# Altium footprint library PCB - CONNECTORS - MOLEX - Pico-Lock.PcbLib: 9 footprints
Each footprint in its own frame and in the unit in brackets; x right, y up, seen from the top. Pads: shape width x height; smd on the part's side, far side on the other; paste and mask are expansions set on the pad; w line width, h text height; cw(c..) or ccw(c..) is an arc to the next point about the centre after c.
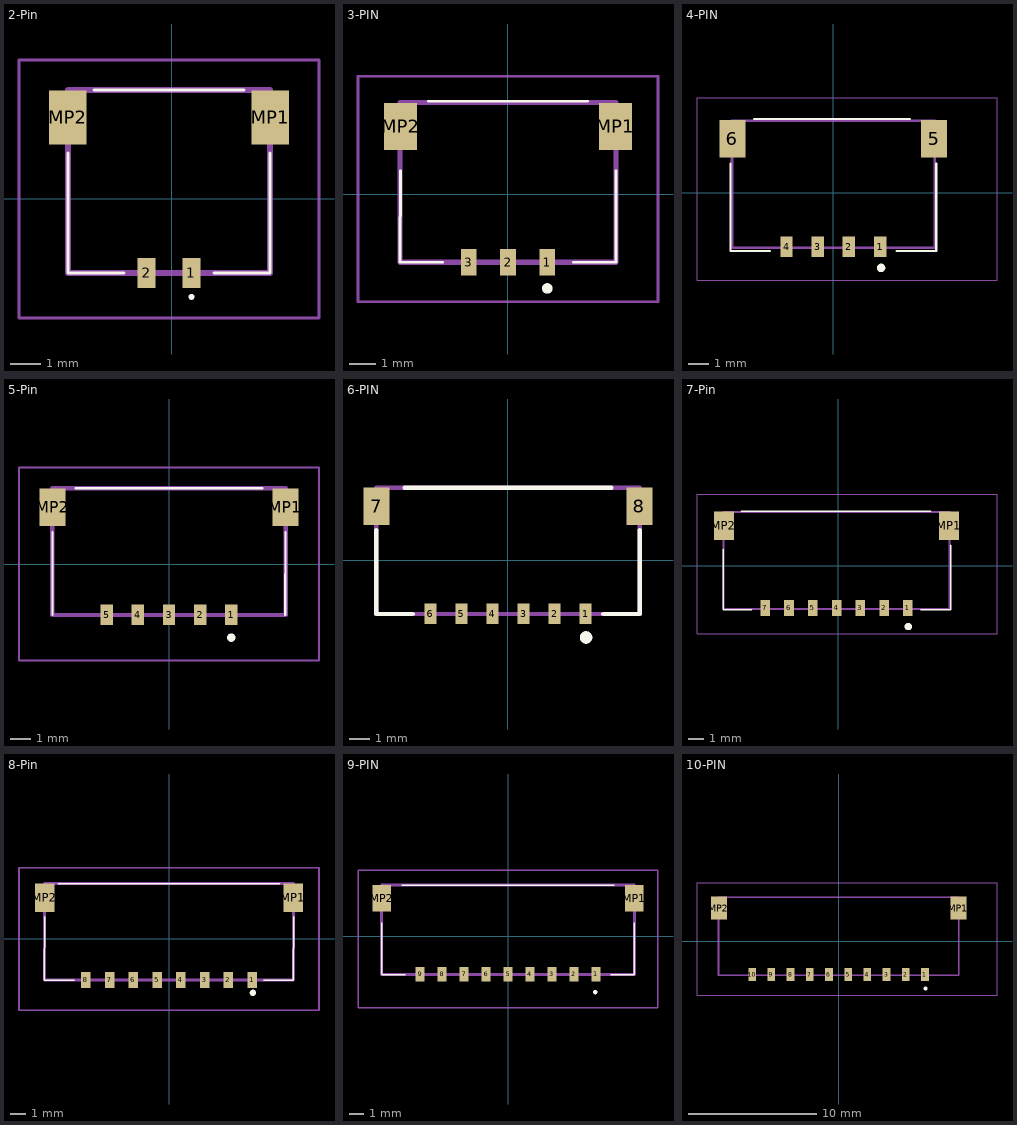
[diagram p0: the footprints below, top view; thin cyan lines are the x and y axes]

## 2-Pin [mm]
pads (4):
  rect 0.6x1 smd: 1(0.65,-2.475) 2(-0.85,-2.475)
  rect 1.25x1.8 smd: MP1(3.28,2.715) MP2(-3.48,2.715)
Top Overlay:
  lines w0.1: -3.475,1.525 -3.475,-2.475 -1.6,-2.475 ; -2.6,3.625 2.4,3.625 ; 1.4,-2.475 3.275,-2.475 3.275,1.525 ; 0.6,-3.275 ccw(c0.65,-3.275) 0.7,-3.275 ccw(c0.65,-3.275) 0.6,-3.275
Mechanical 13:
  lines w0.2: -3.475,-2.475 3.275,-2.475 3.275,3.625 -3.475,3.625 -3.475,-2.475
Mechanical 15:
  lines w0.1: -5.105,-3.975 4.905,-3.975 4.905,4.625 -5.105,4.625 -5.105,-3.975
3D body "504050-0291.stp": height 2.25, standoff 0, extent -3.98,-2.915 3.78,3.625

## 3-PIN [mm]
pads (5):
  rect 0.6x1 smd: 1(1.5,-2.595) 2(0,-2.595) 3(-1.5,-2.595)
  rect 1.25x1.8 smd: MP1(4.105,2.595) MP2(-4.105,2.595)
Top Overlay:
  lines w0.1: -4.105,0.905 -4.125,-2.595 -2.5,-2.595 ; -3.048,3.556 3.048,3.556 ; 2.5,-2.595 4.125,-2.595 4.125,0.905
  lines w0.2: 1.5,-3.695 ccw(c1.5,-3.595) 1.5,-3.495 ccw(c1.5,-3.595) 1.5,-3.695
Mechanical 13:
  lines w0.2: -4.125,-2.595 -4.125,3.505 4.125,3.505 4.125,-2.595 -4.125,-2.595
Mechanical 15:
  lines w0.1: -5.73,-4.095 -5.73,4.505 5.73,4.505 5.73,-4.095 -5.73,-4.095
3D body "504050-0391.stp": height 2.25, standoff 0, extent -4.605,-3.035 4.605,3.505

## 4-PIN [mm]
pads (6):
  rect 0.6x1 smd: 1(2.25,-2.595) 2(0.75,-2.595) 3(-0.75,-2.595) 4(-2.25,-2.595)
  rect 1.25x1.8 smd: 5(4.855,2.595) 6(-4.855,2.595)
Top Overlay:
  lines w0.1: -4.953,1.397 -4.953,-2.794 -3.048,-2.794 ; -3.81,3.556 3.683,3.556 ; 3.048,-2.794 4.953,-2.794 4.953,1.397
  lines w0.2: 2.301,-3.714 cw(c2.301,-3.614) 2.301,-3.514 cw(c2.301,-3.614) 2.301,-3.714
Mechanical 13:
  lines w0.127: -4.875,-2.645 -4.875,3.455 4.875,3.455 4.875,-2.645 -4.875,-2.645
Mechanical 15:
  lines w0.05: -6.556,-4.222 -6.556,4.582 7.877,4.582 7.877,-4.222 -6.556,-4.222
3D body "5040500491.stp": height 1.98, standoff -0.02, extent -5.25,-3.085 5.3,3.355

## 5-Pin [mm]
pads (7):
  rect 0.6x1 smd: 1(3,-2.45) 2(1.5,-2.45) 3(0,-2.45) 4(-1.5,-2.45) 5(-3,-2.45)
  rect 1.25x1.8 smd: MP1(5.605,2.74) MP2(-5.605,2.74)
Top Overlay:
  lines w0.1: -5.625,-2.45 -5.625,1.55 ; -4.5,3.65 4.5,3.65 ; 5.605,-2.45 5.625,1.55
  lines w0.2: 3,-3.65 cw(c3,-3.55) 3,-3.45 cw(c3,-3.55) 3,-3.65
Mechanical 13:
  lines w0.2: -5.625,-2.45 5.625,-2.45 5.625,3.65 -5.625,3.65 -5.625,-2.45
Mechanical 15:
  lines w0.1: -7.23,-4.65 7.23,-4.65 7.23,4.65 -7.23,4.65 -7.23,-4.65
3D body "504050-0591.stp": height 2.25, standoff 0, extent -6.105,-2.89 6.105,3.65

## 6-PIN [mm]
pads (8):
  rect 0.6x1 smd: 1(3.75,-2.6) 2(2.25,-2.6) 3(0.75,-2.6) 4(-0.75,-2.6) 5(-2.25,-2.6) 6(-3.75,-2.6)
  rect 1.25x1.8 smd: 7(-6.355,2.6) 8(6.355,2.6)
Top Overlay:
  circle w0.34: c3.774,-3.742 r0.134
  lines w0.2: -6.375,1.454 -6.375,-2.6 -4.609,-2.6 ; -5,3.5 5,3.5 ; 4.609,-2.6 6.375,-2.6 6.375,1.454
Mechanical 13:
  lines w0.2: -6.375,-2.6 6.375,-2.6 6.375,3.5 -6.375,3.5 -6.375,-2.6
3D body "504050-0691.stp": height 2, standoff 0, extent -6.775,-2.94 6.775,3.5

## 7-Pin [mm]
pads (9):
  rect 0.6x1 smd: 1(4.4,-2.675) 2(2.9,-2.675) 3(1.4,-2.675) 4(-0.1,-2.675) 5(-1.6,-2.675) 6(-3.1,-2.675) 7(-4.6,-2.675)
  rect 1.25x1.8 smd: MP1(7.005,2.515) MP2(-7.205,2.515)
Top Overlay:
  circle w0.254: c4.425,-3.85 r0.103
  lines w0.1: -7.239,1.016 -7.239,-2.794 -5.461,-2.794 ; -6.096,3.429 5.842,3.429 ; 5.207,-2.794 7.112,-2.794 7.112,1.27
Mechanical 13:
  lines w0.127: -7.225,-2.725 7.025,-2.725 7.025,3.375 -7.225,3.375 -7.225,-2.725
Mechanical 15:
  lines w0.05: -8.906,-4.302 10.027,-4.302 10.027,4.502 -8.906,4.502 -8.906,-4.302
3D body "5040500791.stp": height 1.98, standoff -0.02, extent -7.65,-2.99 7.4,3.45

## 8-Pin [mm]
pads (10):
  rect 0.6x1 smd: 1(5.247,-2.609) 2(3.747,-2.609) 3(2.247,-2.609) 4(0.747,-2.609) 5(-0.753,-2.609) 6(-2.253,-2.609) 7(-3.753,-2.609) 8(-5.253,-2.609)
  rect 1.25x1.8 smd: MP1(7.852,2.581) MP2(-7.858,2.581)
Top Overlay:
  lines w0.1: -7.858,1.381 -7.878,-2.609 -6.003,-2.619 ; -7.003,3.481 6.997,3.481 ; 5.997,-2.619 7.852,-2.619 7.872,1.381
  lines w0.2: 5.197,-3.419 cw(c5.297,-3.419) 5.397,-3.419 cw(c5.297,-3.419) 5.197,-3.419
Mechanical 13:
  lines w0.2: -7.878,-2.619 7.872,-2.619 7.872,3.481 -7.878,3.481 -7.878,-2.619
Mechanical 15:
  lines w0.1: -9.483,-4.519 9.477,-4.519 9.477,4.481 -9.483,4.481 -9.483,-4.519
3D body "504050-0891.stp": height 1.98, standoff -0.02, extent -8.278,-2.959 8.272,3.481

## 9-PIN [mm]
pads (11):
  rect 0.6x1 smd: 1(6,-2.595) 2(4.5,-2.595) 3(3,-2.595) 4(1.5,-2.595) 5(0,-2.595) 6(-1.5,-2.595) 7(-3,-2.595) 8(-4.5,-2.595) 9(-6,-2.595)
  rect 1.25x1.8 smd: MP1(8.605,2.595) MP2(-8.605,2.595)
Top Overlay:
  lines w0.1: 8.625,-2.605 8.625,0.945 8.625,-2.605 ; 8.625,-2.605 7,-2.605 8.625,-2.605 ; -8.625,-2.555 -8.605,-2.555 -8.605,0.945 -8.625,0.945 -8.625,-2.555 ; -8.605,-2.605 -7,-2.605 -8.605,-2.605 ; -7.25,3.495 7.25,3.495 -7.25,3.495
  lines w0.2: 5.9,-3.805 ccw(c5.95,-3.805) 6,-3.805 ; 5.9,-3.805 cw(c5.95,-3.805) 6,-3.805 ; 5.9,-3.805 ccw(c5.95,-3.805) 6,-3.805
Mechanical 13:
  lines w0.2: -8.625,-2.605 -8.625,3.495 8.625,3.495 8.625,-2.605 -8.625,-2.605
Mechanical 15:
  lines w0.1: -10.23,-4.855 -10.23,4.495 10.23,4.495 10.23,-4.855 -10.23,-4.855
3D body "504050-0991.stp": height 2.25, standoff 0, extent -9.105,-3.035 9.105,3.495

## 10-PIN [mm]
pads (12):
  rect 0.6x1 smd: 1(6.75,-2.595) 2(5.25,-2.595) 3(3.75,-2.595) 4(2.25,-2.595) 5(0.75,-2.595) 6(-0.75,-2.595) 7(-2.25,-2.595) 8(-3.75,-2.595) 9(-5.25,-2.595) 10(-6.75,-2.595)
  rect 1.25x1.8 smd: MP1(9.355,2.595) MP2(-9.355,2.595)
Top Overlay:
  lines w0.2: 6.747,-3.685 ccw(c6.797,-3.685) 6.847,-3.685 ; 6.747,-3.685 cw(c6.797,-3.685) 6.847,-3.685 ; 6.747,-3.685 ccw(c6.797,-3.685) 6.847,-3.685
Mechanical 13:
  lines w0.127: -9.375,-2.645 9.375,-2.645 9.375,3.455 -9.375,3.455 -9.375,-2.645
Mechanical 15:
  lines w0.05: -11.056,-4.222 12.377,-4.222 12.377,4.582 -11.056,4.582 -11.056,-4.222
3D body "5040501091.stp": height 1.98, standoff -0.02, extent -9.709,-3.013 9.841,3.427